# Altium footprint library 407F39E008M0000.PcbLib: 1 footprints
Each footprint in its own frame and in the unit in brackets; x right, y up, seen from the top. Pads: shape width x height; smd on the part's side, far side on the other; paste and mask are expansions set on the pad; w line width, h text height; cw(c..) or ccw(c..) is an arc to the next point about the centre after c.
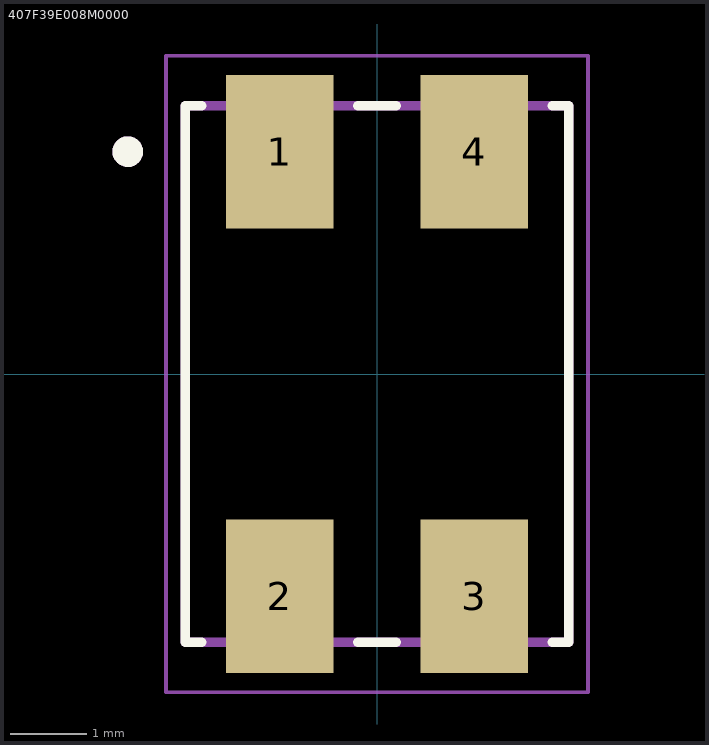
[diagram p0: the footprint, top view; thin cyan lines are the x and y axes]

## 407F39E008M0000 [mm]
pads (4):
  rect 1.4x2 smd: 1(-1.27,2.9) 2(-1.27,-2.9) 3(1.27,-2.9) 4(1.27,2.9)
Top Overlay:
  circle w0.2: c-3.25,2.9 r0.1
  lines w0.127: -2.29,-3.5 -2.5,-3.5 -2.5,3.5 -2.29,3.5 ; -0.25,-3.5 0.25,-3.5 ; -0.25,3.5 0.25,3.5 ; 2.29,-3.5 2.5,-3.5 2.5,3.5 2.29,3.5
Top 3D Body:
  circle w0.2: c-3.25,2.9 r0.1
  lines w0.127: -2.5,-3.5 2.5,-3.5 2.5,3.5 -2.5,3.5 -2.5,-3.5
Top Courtyard:
  lines w0.05: -2.75,-4.15 2.75,-4.15 2.75,4.15 -2.75,4.15 -2.75,-4.15
3D body "407F39E008M0000.step": height 1.3, standoff 0, extent -2.5,-3.5 2.5,3.5